# Altium footprint library saw.PcbLib: 3 footprints
Each footprint in its own frame and in the unit in brackets; x right, y up, seen from the top. Pads: shape width x height; smd on the part's side, far side on the other; paste and mask are expansions set on the pad; w line width, h text height; cw(c..) or ccw(c..) is an arc to the next point about the centre after c.
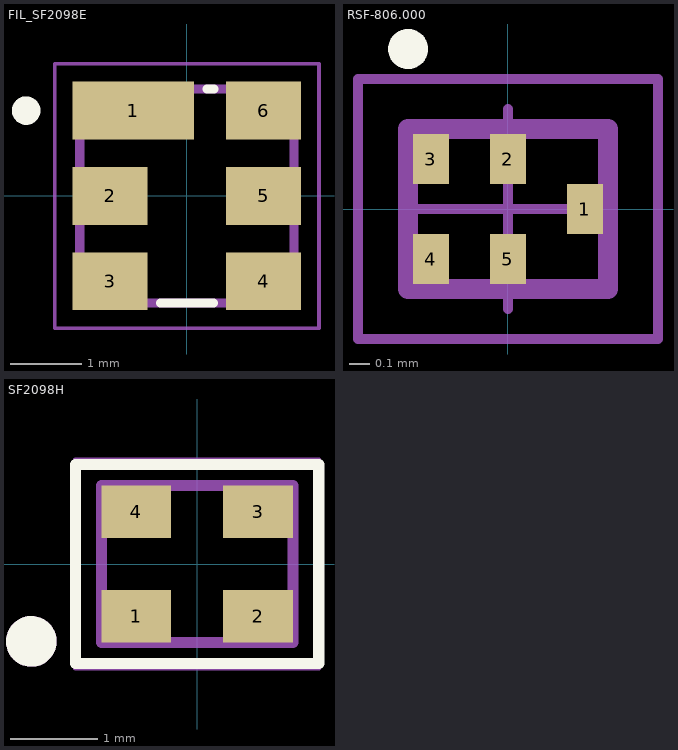
[diagram p0: the footprints below, top view; thin cyan lines are the x and y axes]

## FIL_SF2098E [mm] "SAW Filter SM3030-6"
pads (6):
  rect 1.7x0.81 smd mask+0.051: 1(-0.75,1.195)
  rect 1.05x0.81 smd mask+0.051: 2(-1.075,0) 3(-1.075,-1.195) 4(1.075,-1.195) 5(1.075,0) 6(1.075,1.195)
Top Overlay:
  circle w0.2: c-2.25,1.195 r0.1
  lines w0.127: -0.37,-1.5 0.37,-1.5 ; 0.28,1.5 0.38,1.5
Mechanical 13:
  circle w0.2: c-1,1.195 r0.1
  lines w0.127: -1.5,-1.5 -1.5,1.5 1.5,1.5 1.5,-1.5 -1.5,-1.5
Mechanical 15:
  lines w0.05: -1.85,-1.85 -1.85,1.85 1.85,1.85 1.85,-1.85 -1.85,-1.85

## RSF-806.000 [mm] "5-Leads, Body 0.90x1.10mm, Pitch 0.50mm, IPC Medium Density"
height 0.55
pads (5):
  rect 0.18x0.25 smd mask+0: 1(0.385,0) 2(0,0.25) 3(-0.385,0.25) 4(-0.385,-0.25)
  rect 0.18x0.25 smd paste+0 mask+0: 5(0,-0.25)
Top Overlay:
  circle w0.1: c-0.5,0.8 r0.05
Mechanical 13:
  lines w0.1: -0.5,-0.4 0.5,-0.4 0.5,0.4 -0.5,0.4 -0.5,-0.4
Mechanical 15:
  lines w0.05: -0.5,0 0.5,0 ; 0,-0.5 0,0.5 ; -0.75,-0.65 0.75,-0.65 0.75,0.65 -0.75,0.65 -0.75,-0.65
3D body: height 0.55, standoff 0, extent -0.5,-0.4 0.5,0.4

## SF2098H [mm] "RFMi 915 MHz  SAW Filter"
pads (4):
  rect 0.8x0.6 smd: 1(-0.7,-0.6) 2(0.7,-0.6) 3(0.7,0.6) 4(-0.7,0.6)
Top Overlay:
  circle w0.3: c-1.905,-0.889 r0.141
  lines w0.127: -1.397,-1.143 -1.397,1.143 1.397,1.143 1.397,-1.143 -1.397,-1.143
Mechanical 13:
  circle w0.3: c-1.905,-0.889 r0.141
  lines w0.127: -1.1,-0.9 -1.1,0.9 1.1,0.9 1.1,-0.9 -1.1,-0.9
Mechanical 15:
  lines w0.05: -1.4,-1.2 1.4,-1.2 1.4,1.2 -1.4,1.2 -1.4,-1.2